# Altium footprint library CONNECTOR.PCBLIB: 232 footprints (part 14 of 15)
Each footprint in its own frame and in the unit in brackets; x right, y up, seen from the top. Pads: shape width x height; smd on the part's side, far side on the other; paste and mask are expansions set on the pad; w line width, h text height; cw(c..) or ccw(c..) is an arc to the next point about the centre after c.
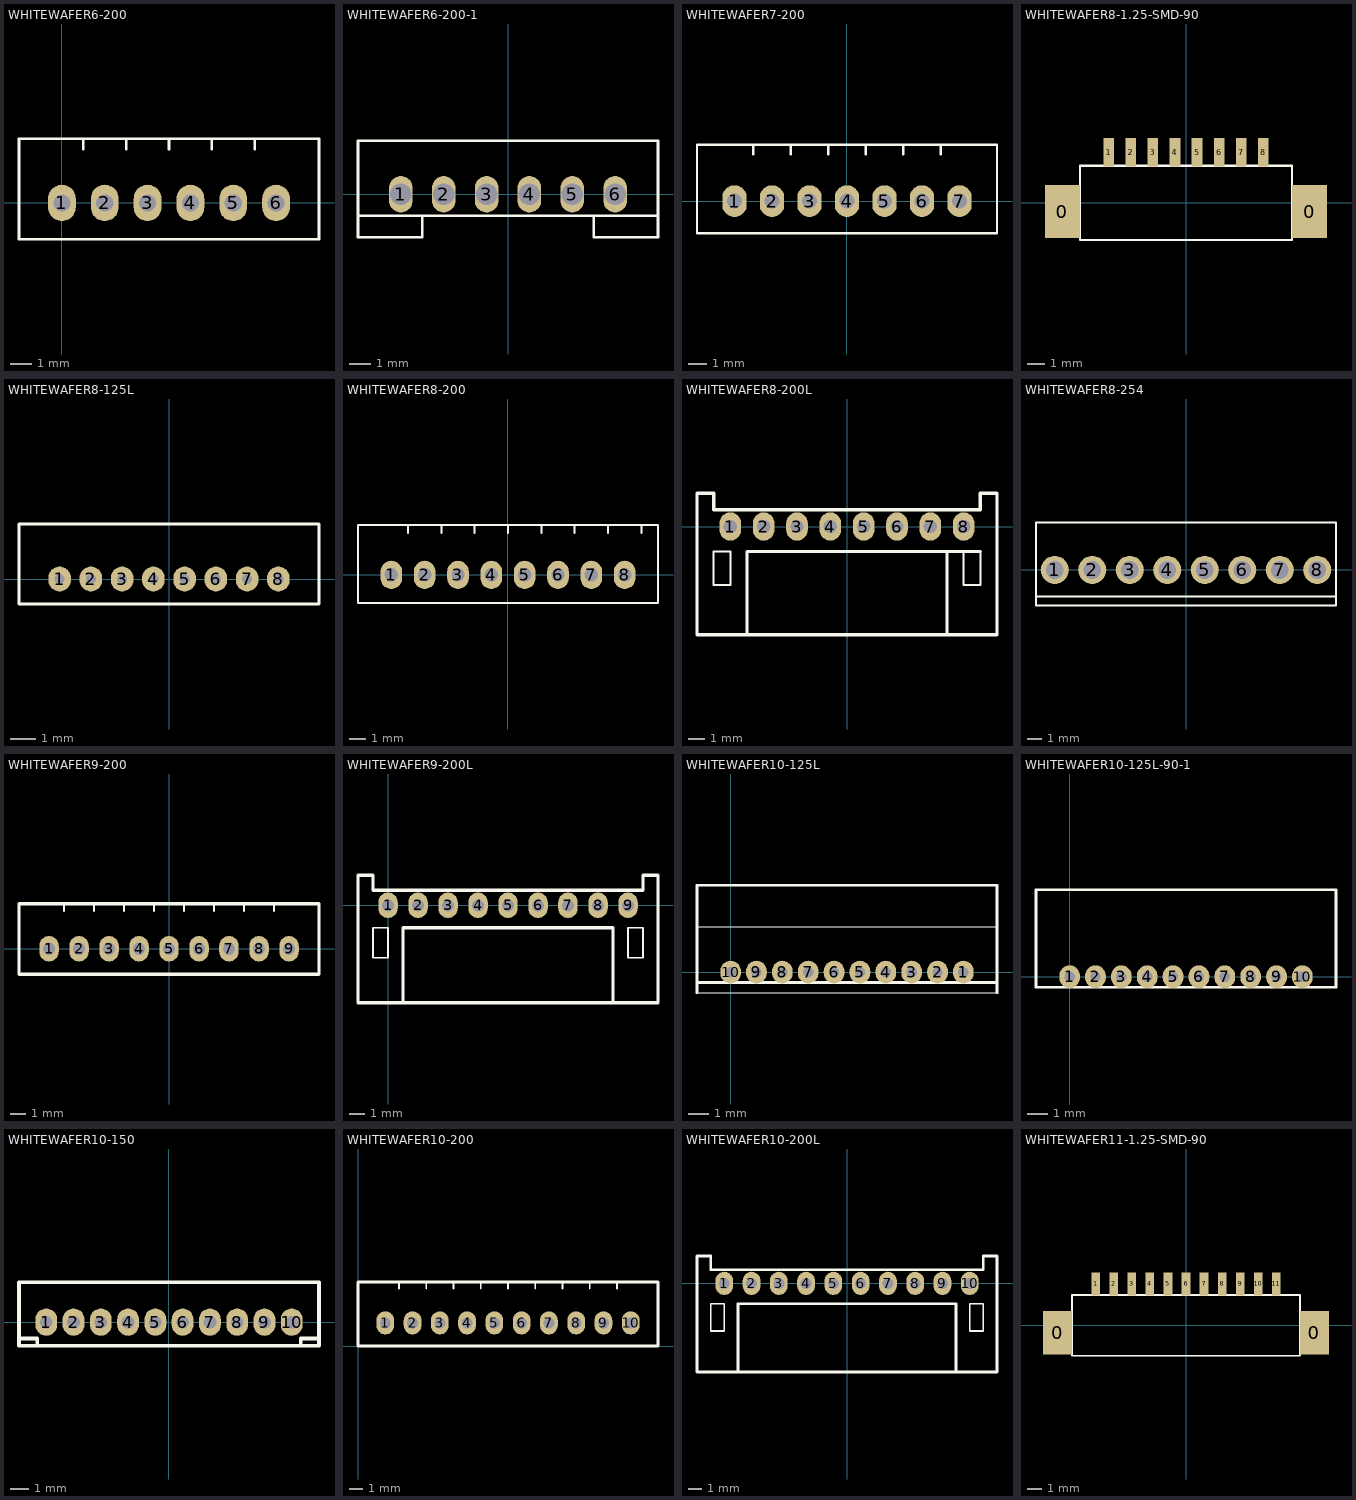
[diagram p13: the footprints below, top view; thin cyan lines are the x and y axes]

## WHITEWAFER6-200 [mm]
pads (6):
  oval 1.3x1.7 hole 0.8: 1(0,0) 2(2,0) 3(4,0) 4(6,0) 5(8,0) 6(10,0)
TopOverlay:
  lines w0.127: 1,2.5 1,3 ; 3,2.5 3,3 ; 5,2.5 5,3 ; 7,2.5 7,3 ; 9,2.5 9,3 ; -2,-1.7 -2,3 12,3 12,-1.7 -2,-1.7

## WHITEWAFER6-200-1 [mm]
pads (6):
  oval 1.1x1.7 hole 1: 1(-5,0) 2(-3,0) 3(-1,0) 4(1,0) 5(3,0) 6(5,0)
TopOverlay:
  lines w0.127: -7,-1 -4,-1 ; 4,-1 4,-2 7,-2 7,2.5 -7,2.5 -7,-2 -4,-2 -4,-1 ; 7,-1 2,-1 -4,-1

## WHITEWAFER7-200 [mm]
pads (7):
  oval 1.3x1.7 hole 0.8: 1(-6,0) 2(-4,0) 3(-2,0) 4(0,0) 5(2,0) 6(4,0) 7(6,0)
TopOverlay:
  lines w0.127: -5,2.5 -5,3 ; -3,2.5 -3,3 ; -1,2.5 -1,3 ; 1,2.5 1,3 ; 3,2.5 3,3 ; 5,2.5 5,3 ; -8,-1.7 -8,3 8,3 8,-1.7 -8,-1.7

## WHITEWAFER8-1.25-SMD-90 [mm] "WHITEWAFER8-1.25-SMD-90"
pads (10):
  rect 2x3 smd: 0(-7,-0.5) 0(7,-0.5)
  rect 0.6x1.6 smd: 1(-4.375,2.875) 2(-3.125,2.875) 3(-1.875,2.875) 4(-0.625,2.875) 5(0.625,2.875) 6(1.875,2.875) 7(3.125,2.875) 8(4.375,2.875)
TopOverlay:
  lines w0.127: -6,-2.1 -6,2.1 6,2.1 6,-2.1 -6,-2.1

## WHITEWAFER8-125L [mm]
pads (8):
  oval 0.9x1 hole 0.4: 1(-4.375,0) 2(-3.125,0) 3(-1.875,0) 4(-0.625,0) 5(0.625,0) 6(1.875,0) 7(3.125,0) 8(4.375,0)
TopOverlay:
  lines w0.127: -6,-1 -6,2.2 6,2.2 6,-1 -6,-1

## WHITEWAFER8-200 [mm]
pads (8):
  oval 1.3x1.7 hole 0.8: 1(-7,0) 2(-5,0) 3(-3,0) 4(-1,0) 5(1,0) 6(3,0) 7(5,0) 8(7,0)
TopOverlay:
  lines w0.127: -6,2.5 -6,3 ; -4,2.5 -4,3 ; -2,2.5 -2,3 ; 0,2.5 0,3 ; 2,2.5 2,3 ; 4,2.5 4,3 ; 6,2.5 6,3 ; 8,2.5 8,3 ; -9,-1.7 9,-1.7 9,3 -9,3 -9,-1.7

## WHITEWAFER8-200L [mm]
pads (8):
  oval 1.3x1.7 hole 0.8: 1(-7,0) 2(-5,0) 3(-3,0) 4(-1,0) 5(1,0) 6(3,0) 7(5,0) 8(7,0)
TopOverlay:
  lines w0.127: -8,-3.5 -8,-1.5 -7,-1.5 -7,-3.5 -8,-3.5 ; 7,-3.5 7,-1.5 8,-1.5 8,-3.5 7,-3.5
  lines w0.203: -6,-6.5 -6,-1.5 8,-1.5 ; 6,-6.5 6,-1.5 ; -9,-6.5 9,-6.5 9,2 8,2 8,1 -8,1 -8,2 -9,2 -9,0 -9,-6.5

## WHITEWAFER8-254 [mm]
pads (8):
  round 1.9 hole 1.2: 1(-8.89,0) 2(-6.35,0) 3(-3.81,0) 4(-1.27,0) 5(1.27,0) 6(3.81,0) 7(6.35,0) 8(8.89,0)
TopOverlay:
  lines w0.127: -10.16,-1.8 10.16,-1.8 ; -10.16,-2.4 -10.16,3.2 10.16,3.2 10.16,-2.4 -10.16,-2.4

## WHITEWAFER9-200 [mm]
pads (9):
  oval 1.3x1.7 hole 0.8: 1(-8,0) 2(-6,0) 3(-4,0) 4(-2,0) 5(0,0) 6(2,0) 7(4,0) 8(6,0) 9(8,0)
TopOverlay:
  lines w0.127: -7,2.5 -7,3 ; -5,2.5 -5,3 ; -3,2.5 -3,3 ; -1,2.5 -1,3 ; 1,2.5 1,3 ; 3,2.5 3,3 ; 5,2.5 5,3 ; 7,2.5 7,3
  lines w0.203: -10,-1.7 10,-1.7 10,3 -10,3 -10,-1.7

## WHITEWAFER9-200L [mm]
pads (9):
  oval 1.3x1.7 hole 0.8: 1(0,0) 2(2,0) 3(4,0) 4(6,0) 5(8,0) 6(10,0) 7(12,0) 8(14,0) 9(16,0)
TopOverlay:
  lines w0.127: -1,-3.5 -1,-1.5 0,-1.5 0,-3.5 -1,-3.5 ; 16,-3.5 16,-1.5 17,-1.5 17,-3.5 16,-3.5
  lines w0.203: 1,-6.5 1,-1.5 15,-1.5 15,-6.5 ; -2,-6.5 18,-6.5 18,2 17,2 17,1 -1,1 -1,2 -2,2 -2,0 -2,-6.5

## WHITEWAFER10-125L [mm] "WHITEWAFER10-125L"
pads (10):
  oval 1x1.1 hole 0.5: 1(11.25,0) 2(10,0) 3(8.75,0) 4(7.5,0) 5(6.25,0) 6(5,0) 7(3.75,0) 8(2.5,0) 9(1.25,0) 10(0,0)
TopOverlay:
  lines w0.05: -1.625,-1 12.875,-1 ; -1.625,2.2 12.875,2.2
  lines w0.127: -1.625,-1 -1.625,4.2 12.875,4.2 12.875,-1 ; -1.625,-0.5 12.875,-0.5

## WHITEWAFER10-125L-90-1 [mm] "WHITEWAFER10-125L-90-1"
pads (10):
  oval 1x1.1 hole 0.5: 1(0,0) 2(1.25,0) 3(2.5,0) 4(3.75,0) 5(5,0) 6(6.25,0) 7(7.5,0) 8(8.75,0) 9(10,0) 10(11.25,0)
TopOverlay:
  lines w0.127: -1.625,-0.5 12.875,-0.5 12.875,4.2 -1.625,4.2 -1.625,-0.5

## WHITEWAFER10-150 [mm]
pads (10):
  oval 1.2x1.5 hole 0.7: 1(-6.75,0) 2(-5.25,0) 3(-3.75,0) 4(-2.25,0) 5(-0.75,0) 6(0.75,0) 7(2.25,0) 8(3.75,0) 9(5.25,0) 10(6.75,0)
TopOverlay:
  lines w0.2: -8.25,-0.9 -7.25,-0.9 -7.25,-1.3 ; 7.25,-1.3 7.25,-0.9 8.25,-0.9 ; -8.25,-1.3 8.25,-1.3 8.25,2.2 -8.25,2.2 -8.25,-1.3

## WHITEWAFER10-200 [mm]
pads (10):
  oval 1.3x1.7 hole 0.8: 1(2,1.7) 2(4,1.7) 3(6,1.7) 4(8,1.7) 5(10,1.7) 6(12,1.7) 7(14,1.7) 8(16,1.7) 9(18,1.7) 10(20,1.7)
TopOverlay:
  lines w0.127: 3,4.2 3,4.7 ; 5,4.2 5,4.7 ; 7,4.2 7,4.7 ; 9,4.2 9,4.7 ; 11,4.2 11,4.7 ; 13,4.2 13,4.7 ; 15,4.2 15,4.7 ; 17,4.2 17,4.7 ; 19,4.2 19,4.7
  lines w0.203: 0,0 0,4.7 22,4.7 22,0 0,0

## WHITEWAFER10-200L [mm]
pads (10):
  oval 1.3x1.7 hole 0.8: 1(-9,0) 2(-7,0) 3(-5,0) 4(-3,0) 5(-1,0) 6(1,0) 7(3,0) 8(5,0) 9(7,0) 10(9,0)
TopOverlay:
  lines w0.127: -10,-3.5 -9,-3.5 -9,-1.5 -10,-1.5 -10,-3.5 ; 9,-3.5 10,-3.5 10,-1.5 9,-1.5 9,-3.5
  lines w0.203: -8,-6.5 -8,-1.5 8,-1.5 8,-6.5 ; -11,-6.5 -11,0 -11,2 -10,2 -10,1 10,1 10,2 11,2 11,-6.5 -11,-6.5

## WHITEWAFER11-1.25-SMD-90 [mm] "WHITEWAFER11-1.25-SMD-90"
pads (13):
  rect 2x3 smd: 0(-8.875,-0.5) 0(8.875,-0.5)
  rect 0.6x1.6 smd: 1(-6.25,2.875) 2(-5,2.875) 3(-3.75,2.875) 4(-2.5,2.875) 5(-1.25,2.875) 6(0,2.875) 7(1.25,2.875) 8(2.5,2.875) 9(3.75,2.875) 10(5,2.875) 11(6.25,2.875)
TopOverlay:
  lines w0.127: -7.875,-2.1 -7.875,2.1 7.875,2.1 7.875,-2.1 -7.875,-2.1